# EAGLE library part TYCO-SD-CONNECTOR (library Traficon)
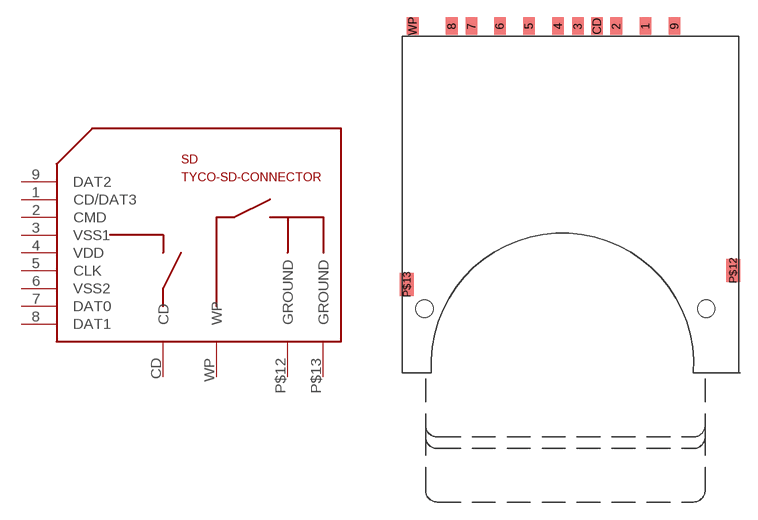
[diagram p126: symbol with the pads of TYCO_SD-CARD-CONNECTOR; footprint TYCO_SD-CARD-CONNECTOR]

Designator prefix SD

## TYCO-SD-CONNECTOR  [TYCO_SD-CARD-CONNECTOR]
1  CD/DAT3
2  CMD
3  VSS1
4  VDD
5  CLK
6  VSS2
7  DAT0
8  DAT1
9  DAT2
CD  CD
P$12  GROUND
P$13  GROUND
WP  WP

## Footprint TYCO_SD-CARD-CONNECTOR (pad centres in mm)
smd 1 x 1.5: 1 6.875,24.3; 2 4.375,24.3; 3 1.075,24.3; 4 -0.625,24.3; 5 -3.125,24.3; 6 -5.625,24.3; 7 -8.05,24.3; 8 -9.75,24.3; 9 9.375,24.3; CD 2.725,24.3; WP -13.1,24.3
smd 1.2 x 2: P$12 14.4,3.3; P$13 -13.6,2.1
hole 1.5 at -12.1,0
hole 1.5 at 12.1,0